# EAGLE library part PESDXS4UD (library smt_diodes)
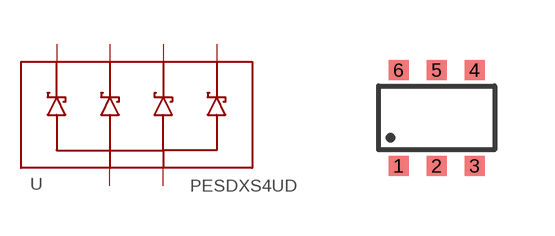
[diagram p1: symbol with the pads of SC-74; footprint SC-74]

Designator prefix -

## PESDXS4UD  [SC-74]
1  1  pas
2  2  pas
3  3  pas
4  4  pas
5  5  pas
6  6  pas

## Footprint SC-74 (pad centres in mm)
smd 0.5 x 0.5: 1 -0.95,-1.2; 2 0,-1.2; 3 0.95,-1.2; 4 0.95,1.2; 5 0,1.2; 6 -0.95,1.2